# Altium footprint library DEV-15583.PcbLib: 1 footprints
Each footprint in its own frame and in the unit in brackets; x right, y up, seen from the top. Pads: shape width x height; smd on the part's side, far side on the other; paste and mask are expansions set on the pad; w line width, h text height; cw(c..) or ccw(c..) is an arc to the next point about the centre after c.
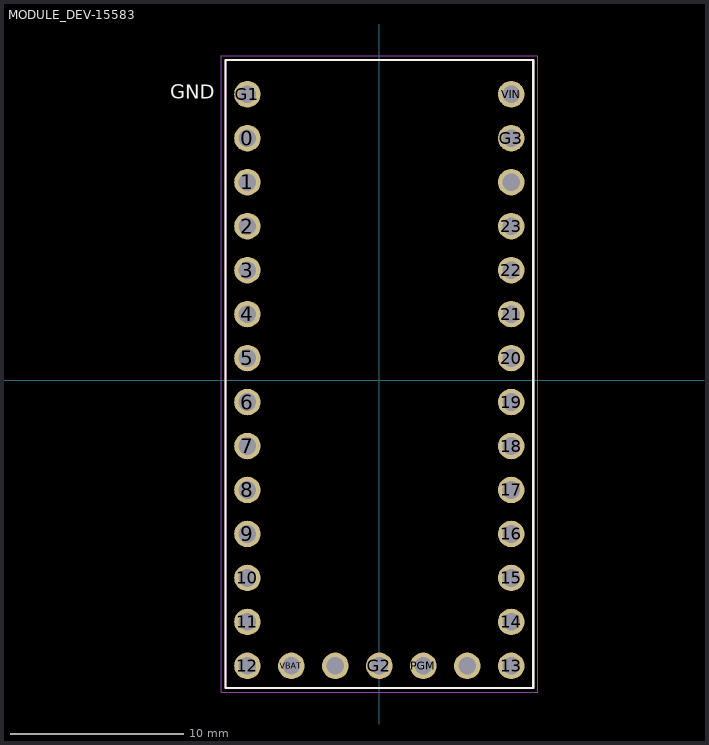
[diagram p0: the footprint, top view; thin cyan lines are the x and y axes]

## MODULE_DEV-15583 [mm]
pads (33):
  round 1.53 hole 1.02: 0(-7.62,13.97) 1(-7.62,11.43) 2(-7.62,8.89) 3(-7.62,6.35) 3.3V_1(-2.54,-16.51) 3.3V_2(7.62,11.43) 4(-7.62,3.81) 5(-7.62,1.27) 6(-7.62,-1.27) 7(-7.62,-3.81) 8(-7.62,-6.35) 9(-7.62,-8.89) 10(-7.62,-11.43) 11(-7.62,-13.97) 12(-7.62,-16.51) 13(7.62,-16.51) 14(7.62,-13.97) 15(7.62,-11.43) 16(7.62,-8.89) 17(7.62,-6.35) 18(7.62,-3.81) 19(7.62,-1.27) 20(7.62,1.27) 21(7.62,3.81) 22(7.62,6.35) 23(7.62,8.89) G1(-7.62,16.51) G2(0,-16.51) G3(7.62,13.97) ON-OFF(5.08,-16.51) PGM(2.54,-16.51) VBAT(-5.08,-16.51) VIN(7.62,16.51)
Top Overlay:
  lines w0.127: -8.89,-17.78 8.89,-17.78 8.89,18.48 -8.89,18.48 -8.89,-17.78
  text "GND" at -12.065,16.256 h0.81
Mechanical 13:
  lines w0.127: -8.89,-17.78 8.89,-17.78 8.89,18.48 -8.89,18.48 -8.89,-17.78
  text "GND" at -12.065,16.256 h0.81
Mechanical 15:
  lines w0.05: -9.14,-18.03 -9.14,18.73 9.14,18.73 9.14,-18.03 -9.14,-18.03
3D body "step_temp.STEP": height 4.38, standoff -1.2, extent -8.89,-17.78 8.89,18.48